# Altium footprint library 10mmRBG.PcbLib: 2 footprints
Each footprint in its own frame and in the unit in brackets; x right, y up, seen from the top. Pads: shape width x height; smd on the part's side, far side on the other; paste and mask are expansions set on the pad; w line width, h text height; cw(c..) or ccw(c..) is an arc to the next point about the centre after c.
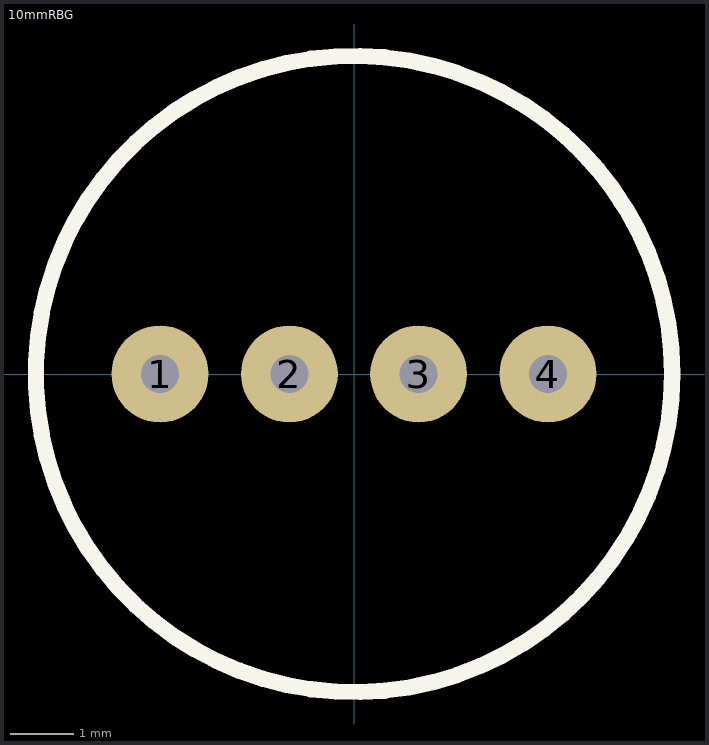
[diagram p0: the footprints below, top view; thin cyan lines are the x and y axes]

## 10mmRBG [mil]
pads (4):
  round 60 hole 23.62: 1(-120,0) 2(-40,0) 3(40,0) 4(120,0)
Top Overlay:
  circle w10: c0,0 r196.85

## PCBComponent_1 [mil]